# Altium schematic symbol library Schlib1.SchLib: 40 symbols
Pins are listed as number, name and electrical type; pins without a type are passive.

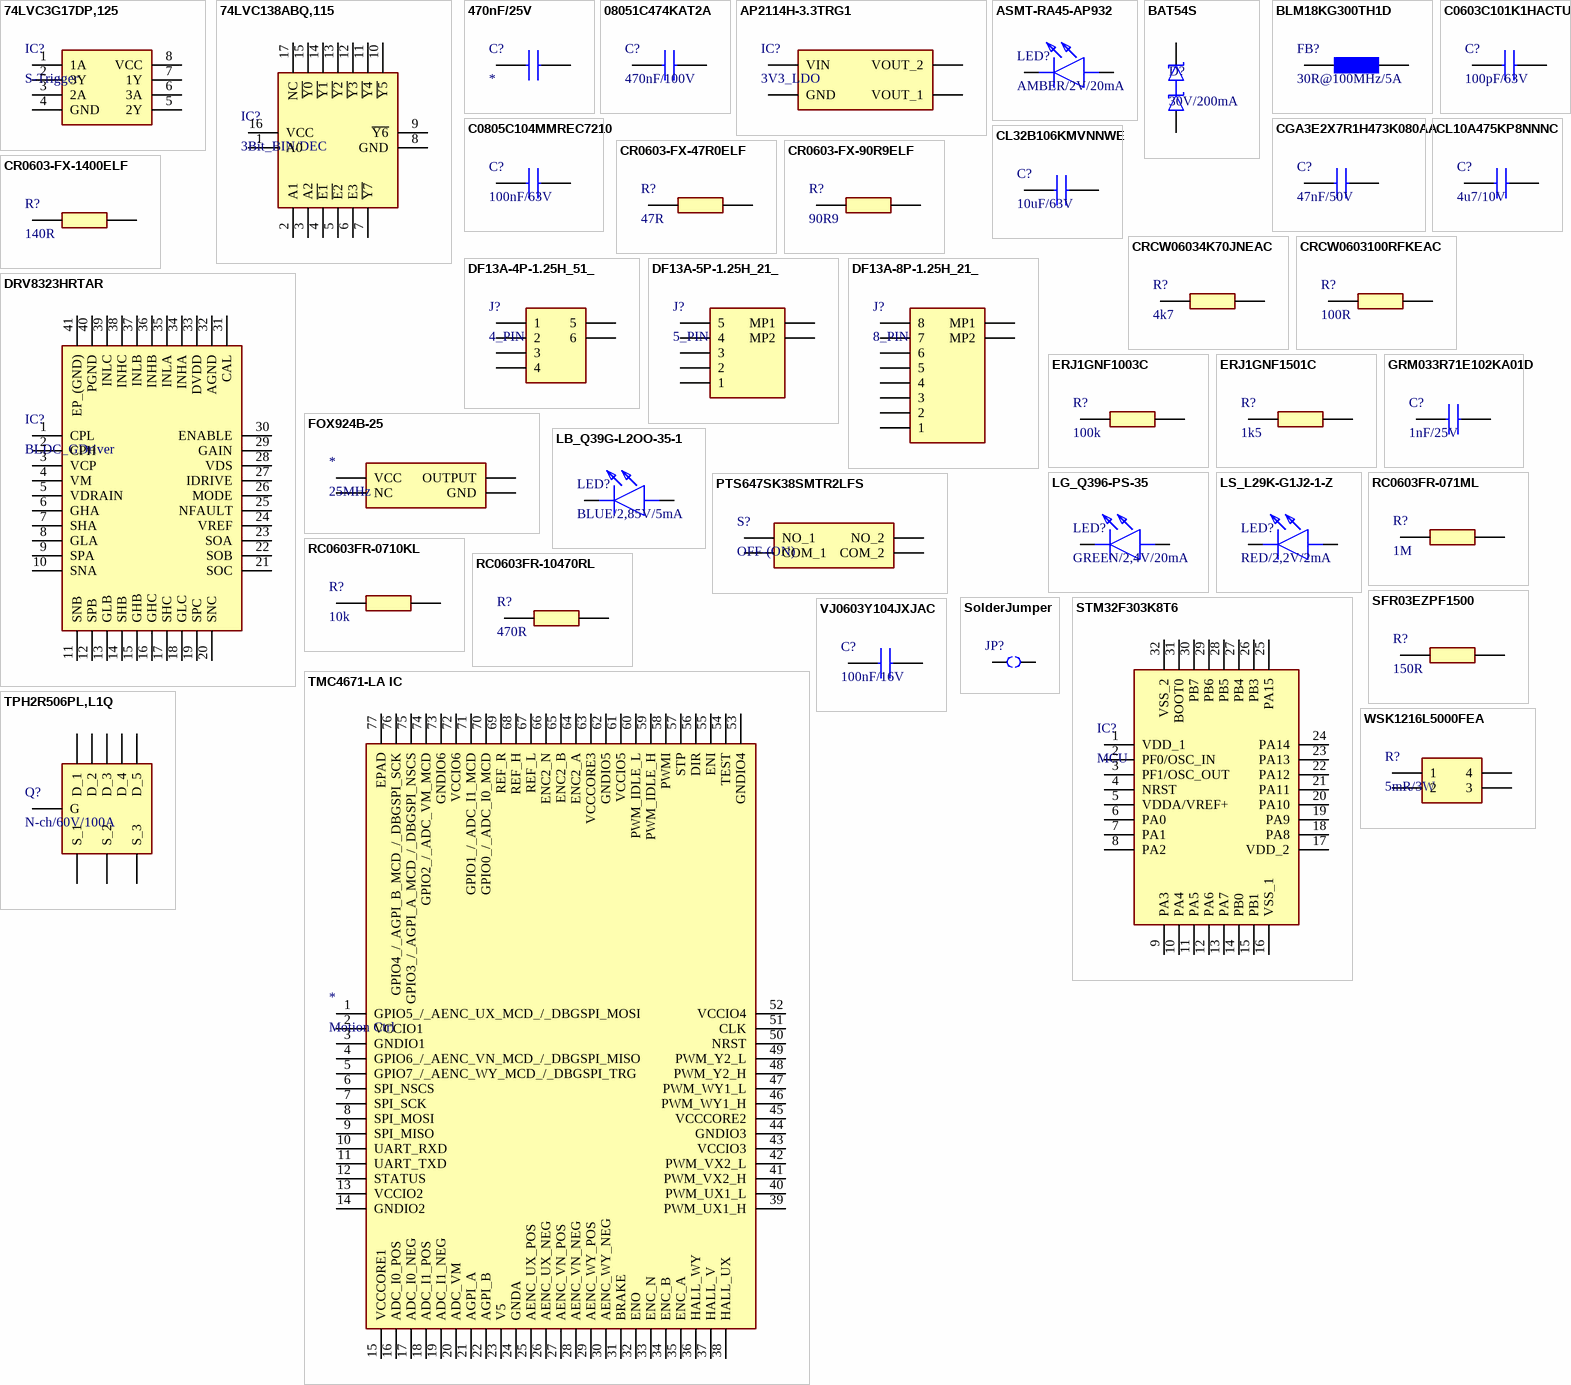
[diagram p0: symbols 74LVC3G17DP,125 to WSK1216L5000FEA]

## 74LVC3G17DP,125
designator IC?, comment S-Trigger
Integrated Circuit; Manufacturer_Name: Nexperia; Manufacturer_Part_Number: 74LVC3G17DP,125; Datasheet Link: https://assets.nexperia.com/documents/data-sheet/74LVC3G17.pdf; Height: 1.1mm; Mouser Part Number: 771-LVC3G17DP125; Mouser Price/Stock: https://www.mouser.co.uk/ProductDetail/Nexperia/74LVC3G17DP125?qs=me8TqzrmIYUUngWcw0uHGA%3D%3D; Arrow Part Number: 74LVC3G17DP,125; Arrow Price/Stock: https://www.arrow.com/en/products/74lvc3g17dp125/nexperia
footprint SOP65P400X110-8N
pins: 1 1A, 2 3Y, 3 2A, 4 GND, 5 2Y, 6 3A, 7 1Y, 8 VCC

## 74LVC138ABQ,115
designator IC?, comment 3Bit_BIN/DEC
Integrated Circuit; Manufacturer_Name: Nexperia; Manufacturer_Part_Number: 74LVC138ABQ,115; Datasheet Link: https://assets.nexperia.com/documents/data-sheet/74LVC138A.pdf; Arrow Part Number: 74LVC138ABQ,115; Arrow Price/Stock: https://www.arrow.com/en/products/74lvc138abq115/nexperia; Mouser Part Number: 771-LVC138ABQ115; Mouser Price/Stock: https://www.mouser.co.uk/ProductDetail/Nexperia/74LVC138ABQ115?qs=me8TqzrmIYUqHGpwzmLq4w%3D%3D
footprint 74HCT595BQ115
pins: 1 A0, 2 A1, 3 A2, 4 ~{E1}, 5 ~{E2}, 6 E3, 7 ~{Y7}, 8 GND, 9 ~{Y6}, 10 ~{Y5}, 11 ~{Y4}, 12 ~{Y3}, 13 ~{Y2}, 14 ~{Y1}, 15 ~{Y0}, 16 VCC, 17 NC

## 470nF/25V
designator C?
Capacitor; Manufacturer_Name: Wurth Elektronik; Manufacturer_Part_Number: 885012206075; Datasheet Link: https://katalog.we-online.com/pbs/datasheet/885012206075.pdf; Height: 0.87mm; Mouser Part Number: 710-885012206075; Mouser Price/Stock: https://www.mouser.co.uk/ProductDetail/Wurth-Elektronik/885012206075?qs=0KOYDY2FL2%252Bex%252BAYqJM6Ug%3D%3D
footprint CAPC1608X87N
pins: 1, 2

## 08051C474KAT2A
designator C?, comment 470nF/100V
Capacitor; Manufacturer_Name: AVX; Manufacturer_Part_Number: 08051C474KAT2A; Datasheet Link: http://datasheets.avx.com/X7RDielectric.pdf; Height: 1.4mm; Mouser Part Number: 581-08051C474KAT2A; Mouser Price/Stock: https://www.mouser.co.uk/ProductDetail/AVX/08051C474KAT2A?qs=%2FjdEcI0p95Mz%2FN5KbrGN6Q%3D%3D
footprint CAPC2012X140N
pins: 1, 2

## AP2114H-3.3TRG1
designator IC?, comment 3V3_LDO
Integrated Circuit; Manufacturer_Name: Diodes Inc.; Manufacturer_Part_Number: AP2114H-3.3TRG1; Datasheet Link: http://uk.rs-online.com/web/p/products/8283528; Height: 1.8mm; Arrow Part Number: AP2114H-3.3TRG1; Arrow Price/Stock: https://www.arrow.com/en/products/ap2114h-3.3trg1/diodes-incorporated; Mouser Part Number: 621-AP2114H-3.3TRG1; Mouser Price/Stock: https://www.mouser.co.uk/ProductDetail/Diodes-Incorporated/AP2114H-33TRG1?qs=x6A8l6qLYDDSG%2FfwzcsOhw%3D%3D
footprint SOT230P700X180-4N
pins: 1 GND, 2 VOUT_1, 3 VIN, 4 VOUT_2

## ASMT-RA45-AP932
designator LED?, comment AMBER/2V/20mA
LED; Manufacturer_Name: Avago Technologies; Manufacturer_Part_Number: ASMT-RA45-AP932; Datasheet Link: https://docs.broadcom.com/docs/AV02-0378EN; Height: 0.55mm; Mouser Part Number: 630-ASMT-RA45-AP932; Mouser Price/Stock: https://www.mouser.co.uk/ProductDetail/Broadcom-Avago/ASMT-RA45-AP932?qs=7zQgkplsu%2FO5gZneoB42ug%3D%3D
footprint LEDC1608X55N
pins: 1 K, 2 A

## BAT54S
designator D?, comment 30V/200mA
Schottky Diode; Manufacturer_Name: Rectron; Manufacturer_Part_Number: BAT54S; Datasheet Link: https://www.rectron.com/data_sheets/bat54s.pdf; Height: 1.1mm; Mouser Part Number: 583-BAT54S; Mouser Price/Stock: https://www.mouser.co.uk/ProductDetail/Rectron/BAT54S?qs=7pEAo90IqNGRiqD7TkybWA%3D%3D; Arrow Part Number: BAT54S; Arrow Price/Stock: https://www.arrow.com/en/products/bat54s/rectron
footprint SOT95P240X110-3N
pins: 1 A, 2 K, 3 A/K

## BLM18KG300TH1D
designator FB?, comment 30R@100MHz/5A
Ferrite Bead; Manufacturer_Name: Murata Electronics; Manufacturer_Part_Number: BLM18KG300TH1D; Datasheet Link: https://www.murata.com/en-us/products/productdetail?partno=BLM18KG300TH1%23; Height: 0.75mm; Arrow Part Number: BLM18KG300TH1D; Arrow Price/Stock: https://www.arrow.com/en/products/blm18kg300th1d/murata-manufacturing; Mouser Part Number: 81-BLM18KG300TH1D; Mouser Price/Stock: https://www.mouser.com/Search/Refine.aspx?Keyword=81-BLM18KG300TH1D
footprint BLM18KG101TH1D
pins: 1, 2

## C0603C101K1HACTU
designator C?, comment 100pF/63V
Capacitor; Manufacturer_Name: Kemet; Manufacturer_Part_Number: C0603C101K1HACTU; Datasheet Link: https://www.mouser.com/datasheet/2/212/KEM_C1007_X8R_ULTRA_150C_SMD-1102703.pdf; Height: 0.87mm; Mouser Part Number: 80-C0603C101K1HACTU; Mouser Price/Stock: https://www.mouser.co.uk/ProductDetail/KEMET/C0603C101K1HACTU?qs=W0yvOO0ixfE5G01qpfeqIQ%3D%3D
footprint CAPC1608X87N
pins: 1, 2

## C0805C104MMREC7210
designator C?, comment 100nF/63V
Capacitor; Manufacturer_Name: Vishay; Manufacturer_Part_Number: VJ0603Y104JXJAC; Datasheet Link: http://www.vishay.com/docs/45226/vj31xrohsautomlcc.pdf; Height: 1mm; Mouser Part Number: 77-VJ0603Y104JXJAC; Mouser Price/Stock: https://www.mouser.com/Search/Refine.aspx?Keyword=77-VJ0603Y104JXJAC
footprint CAPC1608X97N
pins: 1, 2

## CGA3E2X7R1H473K080AA
designator C?, comment 47nF/50V
Capacitor; Manufacturer_Name: TDK; Manufacturer_Part_Number: CGA3E2X7R1H473K080AA; Datasheet Link: http://docs-emea.rs-online.com/webdocs/14e9/0900766b814e9125.pdf; Height: 0.9mm; Mouser Part Number: 810-CGA3E2X7R1H473K; Mouser Price/Stock: https://www.mouser.co.uk/ProductDetail/TDK/CGA3E2X7R1H473K080AA?qs=NRhsANhppD%252BXNlr9LoLgTw%3D%3D; Arrow Part Number: CGA3E2X7R1H473K080AA; Arrow Price/Stock: https://www.arrow.com/en/products/cga3e2x7r1h473k080aa/tdk
footprint CAPC1608X90N
pins: 1, 2

## CL10A475KP8NNNC
designator C?, comment 4u7/10V
Capacitor; Manufacturer_Name: Samsung Electro-Mechanics; Manufacturer_Part_Number: CL10A475KP8NNNC; Datasheet Link: https://www.arrow.com/en/products/cl10a475kp8nnnc/samsung-electro-mechanics; Height: 0.9mm; Mouser Part Number: 187-CL10A475KP8NNNC; Mouser Price/Stock: https://www.mouser.co.uk/ProductDetail/Samsung-Electro-Mechanics/CL10A475KP8NNNC/?qs=hqM3L16%252BxlfQRmkWsZz5vA%3D%3D; Arrow Part Number: CL10A475KP8NNNC; Arrow Price/Stock: https://www.arrow.com/en/products/cl10a475kp8nnnc/samsung-electro-mechanics
footprint CAPC1608X90N
pins: 1, 2

## CL32B106KMVNNWE
designator C?, comment 10uF/63V
Capacitor; Manufacturer_Name: Samsung Electro-Mechanics; Manufacturer_Part_Number: CL32B106KMVNNWE; Datasheet Link: https://www.arrow.com/en/products/cl32b106kmvnnwe/samsung-electro-mechanics; Height: 2.8mm; Arrow Part Number: CL32B106KMVNNWE; Arrow Price/Stock: https://www.arrow.com/en/products/cl32b106kmvnnwe/samsung-electro-mechanics; Mouser Part Number: 187-CL32B106KMVNNWE; Mouser Price/Stock: https://www.mouser.co.uk/ProductDetail/Samsung-Electro-Mechanics/CL32B106KMVNNWE?qs=xZ%2FP%252Ba9zWqaEMBbSgKy8gQ%3D%3D
footprint CAPC3225X280N
pins: 1, 2

## CR0603-FX-47R0ELF
designator R?, comment 47R
Resistor; Manufacturer_Name: Bourns; Manufacturer_Part_Number: CR0603-FX-47R0ELF; Datasheet Link: https://www.bourns.com/pdfs/chpreztr.pdf; Height: 0.55mm; Mouser Part Number: 652-CR0603FX-47R0ELF; Mouser Price/Stock: https://www.mouser.com/Search/Refine.aspx?Keyword=652-CR0603FX-47R0ELF
footprint RESC1608X55N
pins: 1, 2

## CR0603-FX-90R9ELF
designator R?, comment 90R9
Resistor; Manufacturer_Name: Bourns; Manufacturer_Part_Number: CR0603-FX-90R9ELF; Datasheet Link: https://www.bourns.com/pdfs/chpreztr.pdf; Height: 0.55mm; Mouser Part Number: 652-CR0603FX-90R9ELF; Mouser Price/Stock: https://www.mouser.co.uk/ProductDetail/Bourns/CR0603-FX-90R9ELF?qs=Ody%252BWaR0NcGcGtsE1btAug%3D%3D; Arrow Part Number: CR0603-FX-90R9ELF; Arrow Price/Stock: https://www.arrow.com/en/products/cr0603-fx-90r9elf/bourns
footprint RESC1608X55N
pins: 1, 2

## CR0603-FX-1400ELF
designator R?, comment 140R
Resistor; Manufacturer_Name: Bourns; Manufacturer_Part_Number: CR0603-FX-1400ELF; Datasheet Link: https://www.bourns.com/pdfs/chpreztr.pdf; Height: 0.55mm
footprint RESC1608X55N
pins: 1, 2

## CRCW06034K70JNEAC
designator R?, comment 4k7
Resistor; Manufacturer_Name: Vishay; Manufacturer_Part_Number: CRCW06034K70JNEAC; Datasheet Link: http://www.vishay.com/docs/28773/crcwce3.pdf; Height: 0.55mm; Mouser Part Number: 71-CRCW06034K70JNEAC; Mouser Price/Stock: https://www.mouser.co.uk/ProductDetail/Vishay-Dale/CRCW06034K70JNEAC/?qs=E3Y5ESvWgWMzBuUf0K3dnA%3D%3D; Arrow Part Number: CRCW06034K70JNEAC; Arrow Price/Stock: https://www.arrow.com/en/products/crcw06034k70jneac/vishay
footprint RESC1608X55N
pins: 1, 2

## CRCW0603100RFKEAC
designator R?, comment 100R
Resistor; Manufacturer_Name: Vishay; Manufacturer_Part_Number: CRCW0603100RFKEAC; Datasheet Link: https://componentsearchengine.com/Datasheets/1/CRCW0603100RFKEAC.pdf; Height: 0.55mm; Mouser Part Number: 71-CRCW0603100RFKEAC; Mouser Price/Stock: https://www.mouser.co.uk/ProductDetail/Vishay-Dale/CRCW0603100RFKEAC/?qs=E3Y5ESvWgWPJqb4%2F19sAKw%3D%3D; Arrow Part Number: CRCW0603100RFKEAC; Arrow Price/Stock: https://www.arrow.com/en/products/crcw0603100rfkeac/vishay
footprint RESC1608X55N
pins: 1, 2

## DF13A-4P-1.25H_51_
designator J?, comment 4_PIN
Connector; Manufacturer_Name: Hirose; Manufacturer_Part_Number: DF13A-4P-1.25H(51); Datasheet Link: https://www.hirose.com/product/en/products/DF13/DF13A-4P-1.25H%2851%29/; Height: 3mm; Mouser Part Number: 798-DF13A4P125H51; Mouser Price/Stock: https://www.mouser.co.uk/ProductDetail/Hirose-Connector/DF13A-4P-125H51?qs=XQjbzJWzFPVR%252B%2FH2vthd9w%3D%3D
footprint DF13A4P125H51
pins: 1, 2, 3, 4, 5, 6

## DF13A-5P-1.25H_21_
designator J?, comment 5_PIN
Connector; Manufacturer_Name: Hirose; Manufacturer_Part_Number: DF13A-5P-1.25H(21); Datasheet Link: https://componentsearchengine.com/Datasheets/1/DF13A-5P-1.25H(21).pdf; Height: 3.75mm; Mouser Part Number: 798-DF13A5P125H21; Mouser Price/Stock: https://www.mouser.co.uk/ProductDetail/Hirose-Connector/DF13A-5P-125H21?qs=XQjbzJWzFPWvJsE2o%252B4Q8Q%3D%3D
footprint DF13A5P125H21
pins: 1, 2, 3, 4, 5, MP1, MP2

## DF13A-8P-1.25H_21_
designator J?, comment 8_PIN
Connector; Manufacturer_Name: Hirose; Manufacturer_Part_Number: DF13A-8P-1.25H(21); Datasheet Link: http://uk.rs-online.com/web/p/products/7793617P; Height: 3.6mm; Mouser Part Number: 798-DF13A8P125H21; Mouser Price/Stock: https://www.mouser.co.uk/ProductDetail/Hirose-Connector/DF13A-8P-125H21?qs=XQjbzJWzFPViW0MGk5%2FVbA%3D%3D
footprint DF13A8P125H21
pins: 1, 2, 3, 4, 5, 6, 7, 8, MP1, MP2

## DRV8323HRTAR
designator IC?, comment BLDC_GDriver
Integrated Circuit; Manufacturer_Name: Texas Instruments; Manufacturer_Part_Number: DRV8323HRTAR; Datasheet Link: http://www.ti.com/lit/gpn/drv8323; Height: 0.8mm; Mouser Part Number: 595-DRV8323HRTAR; Mouser Price/Stock: https://www.mouser.co.uk/ProductDetail/Texas-Instruments/DRV8323HRTAR?qs=u4fy%2FsgLU9N%252BsI8bz2iwaQ%3D%3D; Arrow Part Number: DRV8323HRTAR; Arrow Price/Stock: https://www.arrow.com/en/products/drv8323hrtar/texas-instruments
footprint QFN50P600X600X80-41N-D
pins: 1 CPL, 2 CPH, 3 VCP, 4 VM, 5 VDRAIN, 6 GHA, 7 SHA, 8 GLA, 9 SPA, 10 SNA, 11 SNB, 12 SPB, 13 GLB, 14 SHB, 15 GHB, 16 GHC, 17 SHC, 18 GLC, 19 SPC, 20 SNC, 21 SOC, 22 SOB, 23 SOA, 24 VREF, 25 NFAULT, 26 MODE, 27 IDRIVE, 28 VDS, 29 GAIN, 30 ENABLE, 31 CAL, 32 AGND, 33 DVDD, 34 INHA, 35 INLA, 36 INHB, 37 INLB, 38 INHC, 39 INLC, 40 PGND, 41 EP_(GND)

## ERJ1GNF1003C
designator R?, comment 100k
Resistor; Manufacturer_Name: Panasonic; Manufacturer_Part_Number: ERJ1GNF1003C; Datasheet Link: https://industrial.panasonic.com/cdbs/www-data/pdf/RDA0000/AOA0000C84.pdf; Height: 0.26mm; Arrow Part Number: ERJ1GNF1003C; Arrow Price/Stock: https://www.arrow.com/en/products/erj1gnf1003c/panasonic
footprint RESC1608X55N
pins: 1, 2

## ERJ1GNF1501C
designator R?, comment 1k5
Resistor; Manufacturer_Name: Panasonic; Manufacturer_Part_Number: ERJ1GNF1501C; Datasheet Link: https://industrial.panasonic.com/cdbs/www-data/pdf/RDA0000/AOA0000C84.pdf; Height: 0.26mm
footprint RESC1608X55N
pins: 1, 2

## FOX924B-25
designator *, comment 25MHz
25Mhz Oscillator
footprint FOX924B25
pins: 1 NC, 2 GND, 3 OUTPUT, 4 VCC

## GRM033R71E102KA01D
designator C?, comment 1nF/25V
Capacitor; Manufacturer_Name: Murata Electronics; Manufacturer_Part_Number: GRM033R71E102KA01D; Datasheet Link: https://psearch.en.murata.com/capacitor/product/GRM033R71E102KA01%23.html; Height: 0.33mm; Mouser Part Number: 81-GRM033R71E102KA1D; Mouser Price/Stock: https://www.mouser.co.uk/ProductDetail/Murata-Electronics/GRM033R71E102KA01D/?qs=%252BwCMEOx2S5vqymn%2Fc34U1A%3D%3D; Arrow Part Number: GRM033R71E102KA01D; Arrow Price/Stock: https://www.arrow.com/en/products/grm033r71e102ka01d/murata-manufacturing
footprint CAPC1608X97N
pins: 1, 2

## LB_Q39G-L2OO-35-1
designator LED?, comment BLUE/2,85V/5mA
LED; Manufacturer_Name: OSRAM; Manufacturer_Part_Number: LB Q39G-L2OO-35-1; Datasheet Link: http://www.mouser.com/ds/2/311/LB Q39G - CHIPLED 0603-553388.pdf; Height: 0.4mm; Mouser Part Number: 720-LBQ39GL2N2351; Mouser Price/Stock: https://www.mouser.co.uk/ProductDetail/OSRAM-Opto-Semiconductors/LB-Q39G-L2OO-35-1?qs=74fRo9GAWsxvZBH6a5xY%252BA%3D%3D; Arrow Part Number: LB Q39G-L2OO-35-1; Arrow Price/Stock: https://www.arrow.com/en/products/lbq39g-l2oo-35-1/osram-opto-semiconductors
footprint LEDC1608X40N
pins: 1 K, 2 A

## LG_Q396-PS-35
designator LED?, comment GREEN/2,4V/20mA
LED; Manufacturer_Name: OSRAM; Manufacturer_Part_Number: LG Q396-PS-35; Datasheet Link: https://mouser.componentsearchengine.com/Datasheets/2/LG%20Q396-PS-35.pdf; Height: 0.4mm; Mouser Part Number: 720-LGQ396A3964; Mouser Price/Stock: https://www.mouser.co.uk/ProductDetail/OSRAM-Opto-Semiconductors/LG-Q396-PS-35?qs=xC%252BE9h5iuX5%252BCocujXxOpw%3D%3D; Arrow Part Number: LG Q396-PS-35; Arrow Price/Stock: https://www.arrow.com/en/products/lgq396-ps-35/osram-opto-semiconductors
footprint LGQ396PS35
pins: 1 K, 2 A

## LS_L29K-G1J2-1-Z
designator LED?, comment RED/2,2V/2mA
LED; Manufacturer_Name: OSRAM; Manufacturer_Part_Number: LS L29K-G1J2-1-Z; Datasheet Link: https://dammedia.osram.info/media/resource/hires/osram-dam-5662679/LS%20L29K_EN.pdf; Height: 0.67mm; Mouser Part Number: 720-LSL29K-G1J2-1-Z; Mouser Price/Stock: https://www.mouser.co.uk/ProductDetail/OSRAM-Opto-Semiconductors/LS-L29K-G1J2-1-Z?qs=nTDll3UaDK6mUW9LNPY0Mw%3D%3D
footprint LSL29KG1J21Z
pins: 1 K, 2 A

## PTS647SK38SMTR2LFS
designator S?, comment OFF-(ON)
Switch; Manufacturer_Name: C & K COMPONENTS; Manufacturer_Part_Number: PTS647SK38SMTR2LFS; Datasheet Link: https://www.ckswitches.com/media/2567/pts647.pdf; Height: 3.8mm; Mouser Part Number: 611-PTS647SK38SMTR2L; Mouser Price/Stock: https://www.mouser.co.uk/ProductDetail/CK/PTS647SK38SMTR2LFS/?qs=PqoDHHvF649Jgx1Ch2uMjg%3D%3D
footprint PTS647SK38SMTR2LFS
pins: 1 NO_1, 2 NO_2, 3 COM_1, 4 COM_2

## RC0603FR-071ML
designator R?, comment 1M
Resistor; Manufacturer_Name: YAGEO (PHYCOMP); Manufacturer_Part_Number: RC0603FR-071ML; Datasheet Link: https://www.yageo.com/upload/media/product/productsearch/datasheet/rchip/PYu-RC_Group_51_RoHS_L_11.pdf; Height: 0.55mm; Mouser Part Number: 603-RC0603FR-071ML; Mouser Price/Stock: https://www.mouser.co.uk/ProductDetail/Yageo/RC0603FR-071ML/?qs=VU8sRB4EgwDPceeQKB324w%3D%3D; Arrow Part Number: RC0603FR-071ML; Arrow Price/Stock: https://www.arrow.com/en/products/rc0603fr-071ml/yageo
footprint RESC1608X55N
pins: 1, 2

## RC0603FR-0710KL
designator R?, comment 10k
Resistor; Manufacturer_Name: YAGEO (PHYCOMP); Manufacturer_Part_Number: RC0603FR-0710KL; Datasheet Link: http://www.yageo.com/documents/recent/PYu-RC0603_51_RoHS_L_v5.pdf; Height: 0.55mm; Arrow Part Number: RC0603FR-0710KL; Arrow Price/Stock: https://www.arrow.com/en/products/rc0603fr-0710kl/yageo; Mouser Part Number: 603-RC0603FR-0710KL; Mouser Price/Stock: https://www.mouser.co.uk/ProductDetail/Yageo/RC0603FR-0710KL?qs=grNVn54RoB%252B3GtjbJj3wJQ%3D%3D
footprint RESC1608X55N
pins: 1, 2

## RC0603FR-10470RL
designator R?, comment 470R
Resistor; Manufacturer_Name: YAGEO (PHYCOMP); Manufacturer_Part_Number: RC0603FR-10470RL; Datasheet Link: http://www.yageo.com/documents/recent/PYu-RC0603_51_RoHS_L_v5.pdf; Height: 0.55mm; Mouser Part Number: 603-RC0603FR-10470RL; Mouser Price/Stock: https://www.mouser.co.uk/ProductDetail/Yageo/RC0603FR-10470RL?qs=EiqXWrxQq62gi8HBTlzDog%3D%3D
footprint RESC1608X55N
pins: 1, 2

## SFR03EZPF1500
designator R?, comment 150R
Resistor; Manufacturer_Name: ROHM Semiconductor; Manufacturer_Part_Number: SFR03EZPF1500; Datasheet Link: https://componentsearchengine.com/Datasheets/1/SFR03EZPF1500.pdf; Height: 0.55mm; Mouser Part Number: 755-SFR03EZPF1500; Mouser Price/Stock: https://www.mouser.com/Search/Refine.aspx?Keyword=755-SFR03EZPF1500
footprint RESC1608X55N
pins: 1, 2

## SolderJumper
designator JP?
SolderJumper
footprint SolderJmp_0.8mm
pins: 1, 2

## STM32F303K8T6
designator IC?, comment MCU
Integrated Circuit; Manufacturer_Name: STMicroelectronics; Manufacturer_Part_Number: STM32F303K8T6; Datasheet Link: http://www.mouser.com/ds/2/389/stm32f303c6-956234.pdf; Height: 1.6mm; Arrow Part Number: STM32F303K8T6; Arrow Price/Stock: https://www.arrow.com/en/products/stm32f303k8t6/stmicroelectronics; Mouser Part Number: 511-STM32F303K8T6; Mouser Price/Stock: https://www.mouser.co.uk/ProductDetail/STMicroelectronics/STM32F303K8T6?qs=9MuLHSkliconZih9IS1ieg%3D%3D
footprint QFP80P900X900X160-32N
pins: 1 VDD_1, 2 PF0/OSC_IN, 3 PF1/OSC_OUT, 4 NRST, 5 VDDA/VREF+, 6 PA0, 7 PA1, 8 PA2, 9 PA3, 10 PA4, 11 PA5, 12 PA6, 13 PA7, 14 PB0, 15 PB1, 16 VSS_1, 17 VDD_2, 18 PA8, 19 PA9, 20 PA10, 21 PA11, 22 PA12, 23 PA13, 24 PA14, 25 PA15, 26 PB3, 27 PB4, 28 PB5, 29 PB6, 30 PB7, 31 BOOT0, 32 VSS_2

## TMC4671-LA IC
designator *, comment Motion Ctrl
FOC Motion Controller
footprint QFN40P1050X650X90-77N
pins: 1 GPIO5_/_AENC_UX_MCD_/_DBGSPI_MOSI, 2 VCCIO1, 3 GNDIO1, 4 GPIO6_/_AENC_VN_MCD_/_DBGSPI_MISO, 5 GPIO7_/_AENC_WY_MCD_/_DBGSPI_TRG, 6 SPI_NSCS, 7 SPI_SCK, 8 SPI_MOSI, 9 SPI_MISO, 10 UART_RXD, 11 UART_TXD, 12 STATUS, 13 VCCIO2, 14 GNDIO2, 15 VCCCORE1, 16 ADC_I0_POS, 17 ADC_I0_NEG, 18 ADC_I1_POS, 19 ADC_I1_NEG, 20 ADC_VM, 21 AGPI_A, 22 AGPI_B, 23 V5, 24 GNDA, 25 AENC_UX_POS, 26 AENC_UX_NEG, 27 AENC_VN_POS, 28 AENC_VN_NEG, 29 AENC_WY_POS, 30 AENC_WY_NEG, 31 BRAKE, 32 ENO, 33 ENC_N, 34 ENC_B, 35 ENC_A, 36 HALL_WY, 37 HALL_V, 38 HALL_UX, 39 PWM_UX1_H, 40 PWM_UX1_L, 41 PWM_VX2_H, 42 PWM_VX2_L, 43 VCCIO3, 44 GNDIO3, 45 VCCCORE2, 46 PWM_WY1_H, 47 PWM_WY1_L, 48 PWM_Y2_H, 49 PWM_Y2_L, 50 NRST, 51 CLK, 52 VCCIO4, 53 GNDIO4, 54 TEST, 55 ENI, 56 DIR, 57 STP, 58 PWMI, 59 PWM_IDLE_H, 60 PWM_IDLE_L, 61 VCCIO5, 62 GNDIO5, 63 VCCCORE3, 64 ENC2_A, 65 ENC2_B, 66 ENC2_N, 67 REF_L, 68 REF_H, 69 REF_R, 70 GPIO0_/_ADC_I0_MCD, 71 GPIO1_/_ADC_I1_MCD, 72 VCCIO6, 73 GNDIO6, 74 GPIO2_/_ADC_VM_MCD, 75 GPIO3_/_AGPI_A_MCD_/_DBGSPI_NSCS, 76 GPIO4_/_AGPI_B_MCD_/_DBGSPI_SCK, 77 EPAD

## TPH2R506PL,L1Q
designator Q?, comment N-ch/60V/100A
MOSFET (N-Channel); Manufacturer_Name: Toshiba; Manufacturer_Part_Number: TPH2R506PL,L1Q; Datasheet Link: http://toshiba.semicon-storage.com/info/docget.jsp?did=55522&prodName=TPH2R506PL; Height: 1mm; Mouser Part Number: 757-TPH2R506PLL1Q; Mouser Price/Stock: https://www.mouser.co.uk/ProductDetail/Toshiba/TPH2R506PLL1Q?qs=bUPhaerQQeFGJjj6SxbPEQ%3D%3D; Arrow Part Number: TPH2R506PL,L1Q; Arrow Price/Stock: https://www.arrow.com/en/products/tph2r506pll1q/toshiba
footprint TPHR9003NLL1Q
pins: 1 S_1, 2 S_2, 3 S_3, 4 G, 5 D_1, 6 D_2, 7 D_3, 8 D_4, 9 D_5

## VJ0603Y104JXJAC
designator C?, comment 100nF/16V
Capacitor; Manufacturer_Name: Vishay; Manufacturer_Part_Number: VJ0603Y104JXJAC; Datasheet Link: http://www.vishay.com/docs/45226/vj31xrohsautomlcc.pdf; Height: 0.97mm; Mouser Part Number: 77-VJ0603Y104JXJAC; Mouser Price/Stock: https://www.mouser.com/Search/Refine.aspx?Keyword=77-VJ0603Y104JXJAC
footprint CAPC1608X97N
pins: 1, 2

## WSK1216L5000FEA
designator R?, comment 5mR/3W
Resistor; Manufacturer_Name: Vishay; Manufacturer_Part_Number: WSK1216L5000FEA; Datasheet Link: http://www.vishay.com/docs/30189/wsk1216.pdf; Height: 1.9mm
footprint WSK12161L000FEA
pins: 1, 2, 3, 4